# Altium schematic symbol library Schematic.SchLib: 2 symbols
Pins are listed as number, name and electrical type; pins without a type are passive.

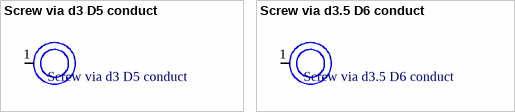
[diagram p0: symbols Screw via d3 D5 conduct to Screw via d3.5 D6 conduct]

## Screw via d3 D5 conduct
designator Screw_via?  (no BOM)
footprint Screw via d3 D5 conduct
pins: 1

## Screw via d3.5 D6 conduct
designator Screw_via?  (no BOM)
footprint Screw via d3.5 D6 conduct
pins: 1